# Altium footprint library NEW_PCB_2022-03-25.PcbLib: 1 footprints
Each footprint in its own frame and in the unit in brackets; x right, y up, seen from the top. Pads: shape width x height; smd on the part's side, far side on the other; paste and mask are expansions set on the pad; w line width, h text height; cw(c..) or ccw(c..) is an arc to the next point about the centre after c.
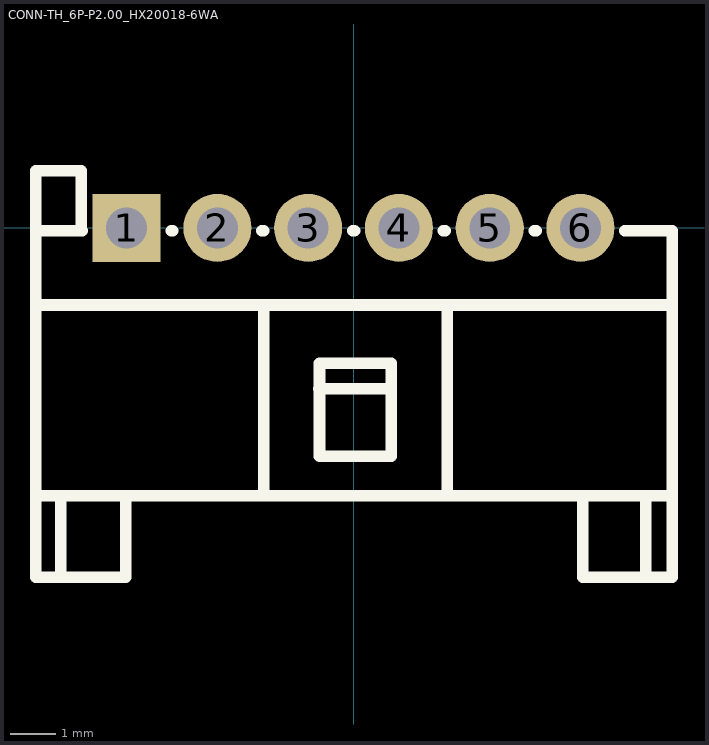
[diagram p0: the footprint, top view; thin cyan lines are the x and y axes]

## CONN-TH_6P-P2.00_HX20018-6WA [mm]
pads (6):
  rect 1.5x1.5 hole 0.9: 1(-5,0)
  round 1.5 hole 0.9: 2(-3,0) 3(-1,0) 4(1,0) 5(3,0) 6(5,0)
Top Overlay:
  lines w0.254: -7,-5.9 7,-5.9 ; -7,-1.7 7,-1.7 ; -6.449,-7.7 -6.449,-5.9 ; -6,-0.06 -6,1.26 -7,1.26 -7,-0.06 ; -5.981,-0.06 -7,-0.06 ; -5.02,-5.9 -5.02,-7.7 -7,-7.7 -7,-0.06 ; -4.019,-0.06 -3.979,-0.06 ; -2.021,-0.06 -1.979,-0.06 ; -1.974,-5.9 -1.974,-1.7 ; -0.77,-3.54 0.79,-3.54 ; -0.021,-0.06 0.021,-0.06 ; 1.979,-0.06 2.021,-0.06 ; 2.06,-5.9 2.06,-1.7 ; 3.979,-0.06 4.021,-0.06 ; 5.05,-5.9 5.05,-7.7 7.02,-7.7 7.02,-0.06 5.979,-0.06 ; 6.434,-7.7 6.434,-5.9 ; -0.75,-5.03 -0.75,-2.98 0.83,-2.98 0.83,-5.03 -0.75,-5.03